# EAGLE library part INA145 (library SPEAR-battery-monitor)
INA145 Texas Instruments differential amplifier. Programmable gain from 1-1000. Datasheet. <http://www.ti.com/lit/ds/symlink/ina145.pdf>
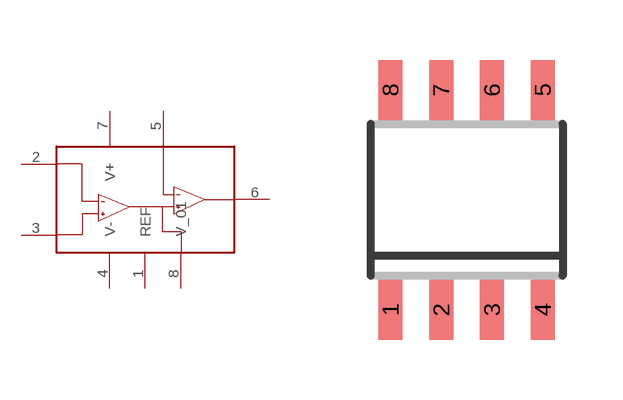
[diagram p0: symbol with the pads of SOIC8; footprint SOIC8]

Designator prefix -

## INA145  [SOIC8]
1  REF
2  IN-
3  IN+
4  V-
5  VG
6  OUT
7  V+
8  V_01

## Footprint SOIC8 (pad centres in mm)
SOIC-8 CASE 751-07 Source: http://www.onsemi.com/pub/Collateral/MC34164-D.PDF D (R-PDSO-G8)PLATIC SMALL-OUTLINE PACKAGE Source: http://focus.ti.com/lit/ds/symlink/tlc27l2.pdf
smd 0.6 x 1.5: 1 -1.905,-2.75; 2 -0.635,-2.75; 3 0.635,-2.75; 4 1.905,-2.75; 5 1.905,2.75; 6 0.635,2.75; 7 -0.635,2.75; 8 -1.905,2.75